# Altium footprint library 1977066-1.PcbLib: 1 footprints
Each footprint in its own frame and in the unit in brackets; x right, y up, seen from the top. Pads: shape width x height; smd on the part's side, far side on the other; paste and mask are expansions set on the pad; w line width, h text height; cw(c..) or ccw(c..) is an arc to the next point about the centre after c.
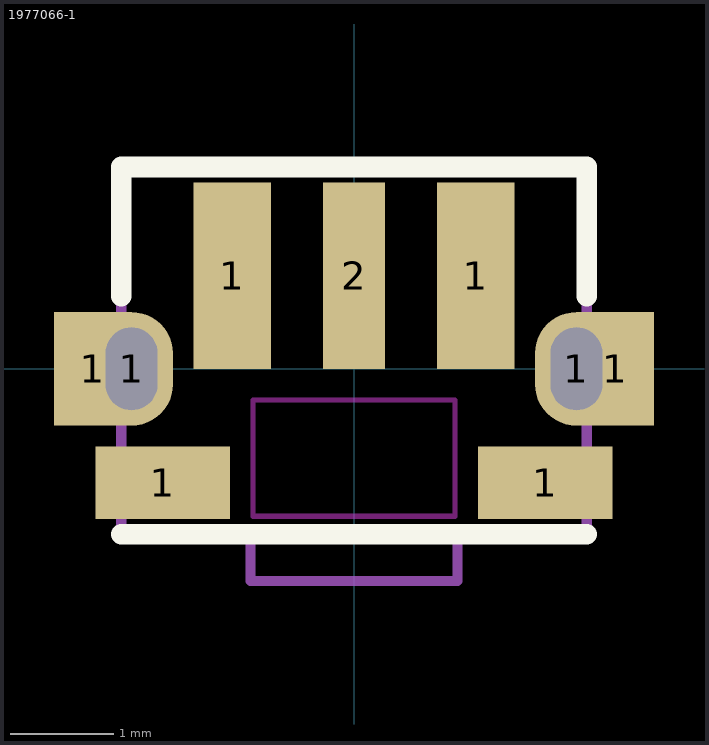
[diagram p0: the footprint, top view; thin cyan lines are the x and y axes]

## 1977066-1 [mm]
pads (9):
  rect 0.75x1.1 smd paste-2539.97 mask+0.05: 1(-2.525,0) 1(2.525,0)
  oval 0.8x1.1 hole 0.5 slot 0.8 at 90 deg mask+0.05: 1(-2.15,0) 1(2.15,0)
  rect 1.3x0.7 smd mask+0.05: 1(-1.85,-1.1) 1(1.85,-1.1)
  rect 0.75x1.8 smd mask+0.05: 1(-1.175,0.9) 1(1.175,0.9)
  rect 0.6x1.8 smd mask+0.05: 2(0,0.9)
Top Layer keep-out:
  lines w0.05: -0.975,-1.425 -0.975,-0.3 0.975,-0.3 0.975,-1.425 -0.975,-1.425
Top Overlay:
  lines w0.2: -2.25,-1.6 2.25,-1.6 ; -2.25,0.7 -2.25,1.95 2.25,1.95 2.25,0.7
Top Assembly:
  lines w0.1: -1,-1.6 -1,-2.05 1,-2.05 1,-1.6 ; -2.25,-1.6 -2.25,1.95 2.25,1.95 2.25,-1.6 -2.25,-1.6
  text "'.Designator'" at -3.965,-0.292 h0.7
3D body "TL3340AF160QG--3DModel-STEP-613395.STEP": height 3.3, standoff -0.46, extent -2.25,-2.05 2.25,1.615